# EAGLE library part SN74LVC2G132 (library 1)
Dual 2-Input NAND Gate with Schmitt-Trigger Inputs
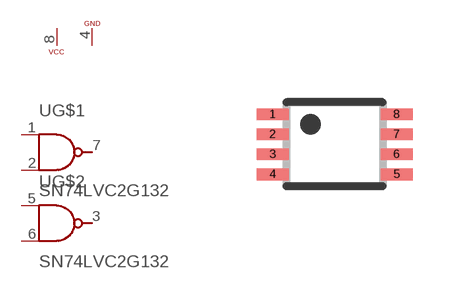
[diagram p48: symbol with the pads of VSSOP-8; footprint VSSOP-8]

Designator prefix U; gates G$1=NAND G$2=NAND G$4=GND G$3=VCC

## SN74LVC2G132  [VSSOP-8]
1  G$1:A
2  G$1:B
3  G$2:Y
4  G$4:GND
5  G$2:A
6  G$2:B
7  G$1:Y
8  G$3:VCC

## Footprint VSSOP-8 (pad centres in mm)
smd 0.8 x 0.3: 1 -1.55,0.75; 2 -1.55,0.25; 3 -1.55,-0.25; 4 -1.55,-0.75; 5 1.55,-0.75; 6 1.55,-0.25; 7 1.55,0.25; 8 1.55,0.75